# Altium schematic symbol library 14AWGSch.SchLib: 1 symbol
Pins are listed as number, name and electrical type; pins without a type are passive.

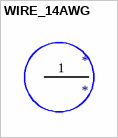
[diagram p0: symbol WIRE_14AWG]

## WIRE_14AWG
designator *
footprint WIRE_14AWG_PTH
pins: 1 0